# Altium footprint library WePcbLib.PcbLib: 177 footprints (part 5 of 12)
Each footprint in its own frame and in the unit in brackets; x right, y up, seen from the top. Pads: shape width x height; smd on the part's side, far side on the other; paste and mask are expansions set on the pad; w line width, h text height; cw(c..) or ccw(c..) is an arc to the next point about the centre after c.
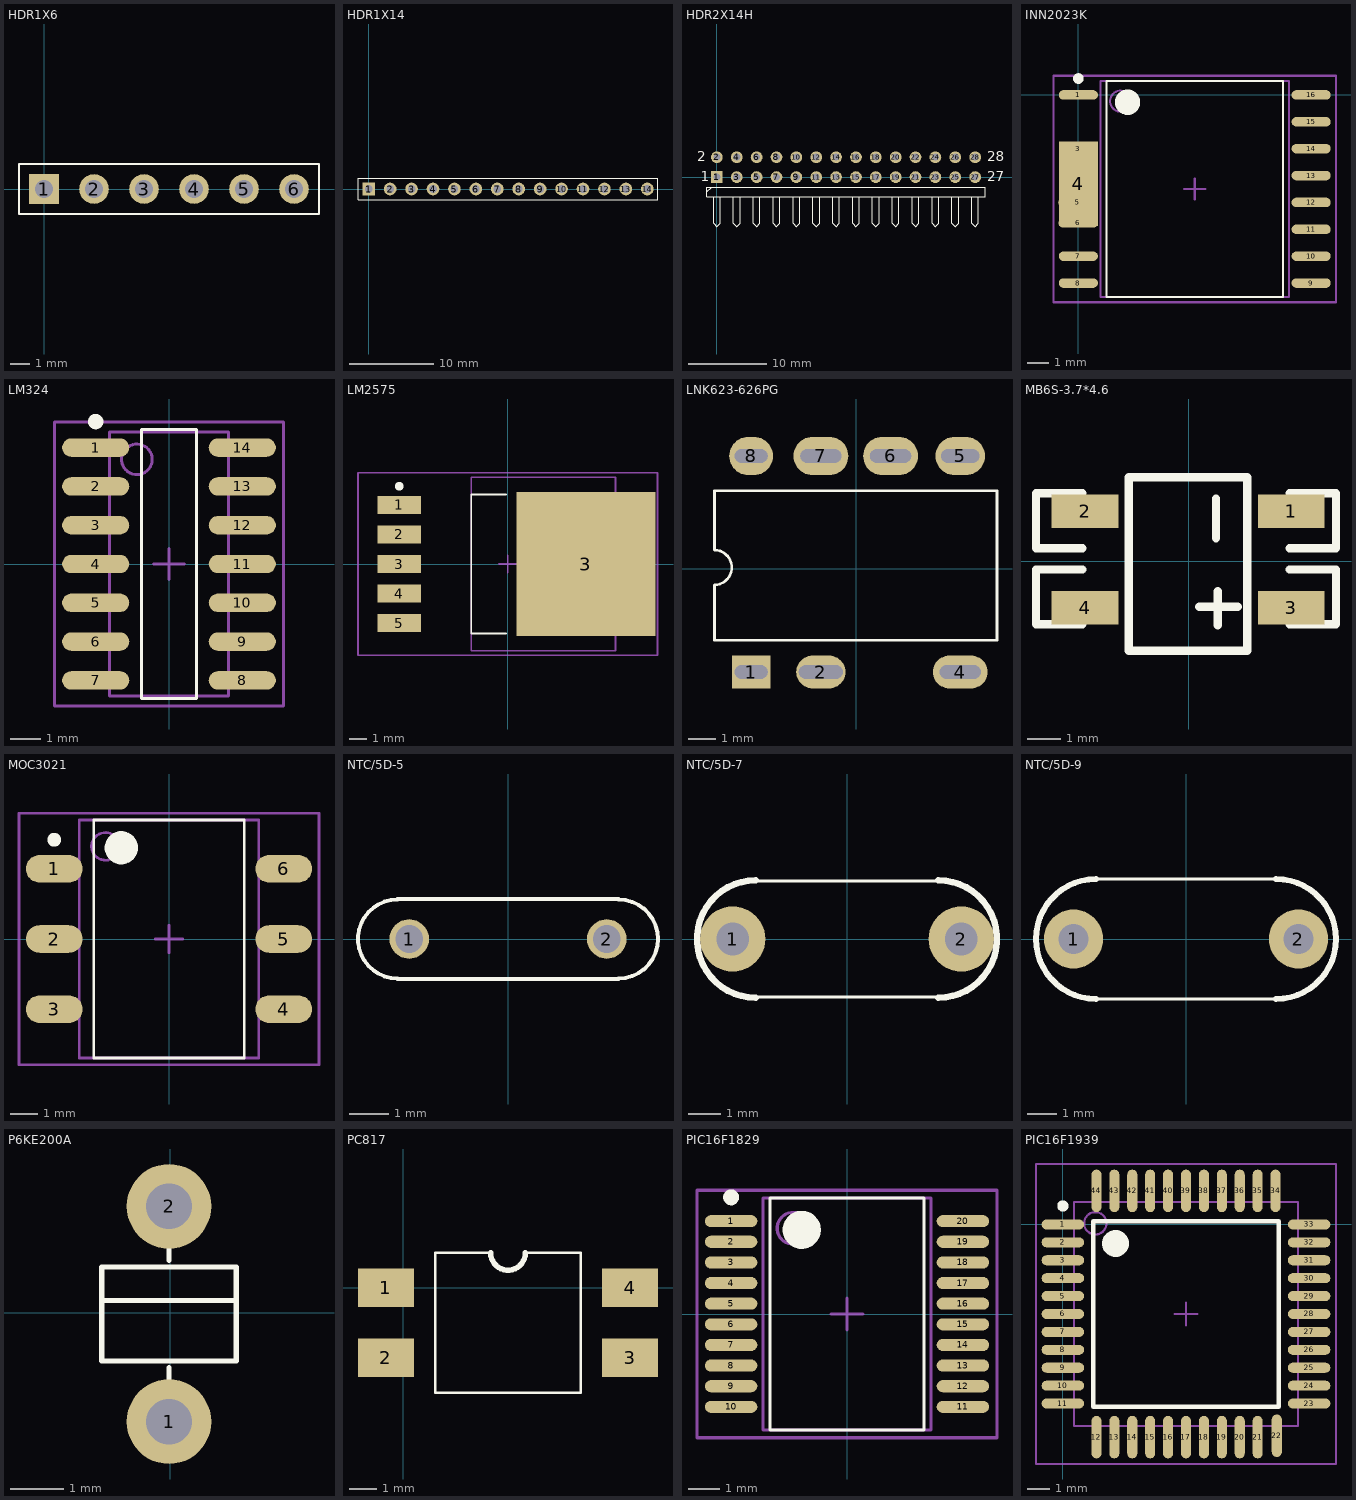
[diagram p4: the footprints below, top view; thin cyan lines are the x and y axes]

## HDR1X6 [mm] "Connector; Header; 6 Position"
height 4.6
pads (6):
  rect 1.5x1.5 hole 0.9: 1(0,0)
  round 1.5 hole 0.9: 2(2.54,0) 3(5.08,0) 4(7.62,0) 5(10.16,0) 6(12.7,0)
Top Overlay:
  lines w0.1: -1.27,-1.27 -1.27,1.27 13.97,1.27 13.97,-1.27 -1.27,-1.27

## HDR1X14 [mm] "Connector; Header; 14 Position"
height 4.6
pads (14):
  rect 1.5x1.5 hole 0.9: 1(0,0)
  round 1.5 hole 0.9: 2(2.54,0) 3(5.08,0) 4(7.62,0) 5(10.16,0) 6(12.7,0) 7(15.24,0) 8(17.78,0) 9(20.32,0) 10(22.86,0) 11(25.4,0) 12(27.94,0) 13(30.48,0) 14(33.02,0)
Top Overlay:
  lines w0.1: -1.27,-1.27 -1.27,1.27 0.635,1.27 34.29,1.27 34.29,-1.27 -1.27,-1.27

## HDR2X14H [mm] "Connector; Header; 14x2 Position; Right Angle"
height 4.6
pads (28):
  rect 1.5x1.5 hole 0.9: 1(0,0)
  round 1.5 hole 0.9: 2(0,2.54) 3(2.54,0) 4(2.54,2.54) 5(5.08,0) 6(5.08,2.54) 7(7.62,0) 8(7.62,2.54) 9(10.16,0) 10(10.16,2.54) 11(12.7,0) 12(12.7,2.54) 13(15.24,0) 14(15.24,2.54) 15(17.78,0) 16(17.78,2.54) 17(20.32,0) 18(20.32,2.54) 19(22.86,0) 20(22.86,2.54) 21(25.4,0) 22(25.4,2.54) 23(27.94,0) 24(27.94,2.54) 25(30.48,0) 26(30.48,2.54) 27(33.02,0) 28(33.02,2.54)
Top Overlay:
  lines w0.1: -1.27,-1.905 -0.635,-1.27 ; -0.423,-2.54 -0.423,-5.927 0,-6.35 0.423,-5.927 0.423,-2.54 ; 2.117,-2.54 2.117,-5.927 2.54,-6.35 2.963,-5.927 2.963,-2.54 ; 4.657,-2.54 4.657,-5.927 5.08,-6.35 5.503,-5.927 5.503,-2.54 ; 7.197,-2.54 7.197,-5.927 7.62,-6.35 8.043,-5.927 8.043,-2.54 ; 9.737,-2.54 9.737,-5.927 10.16,-6.35 10.583,-5.927 10.583,-2.54 ; 12.277,-2.54 12.277,-5.927 12.7,-6.35 13.123,-5.927 13.123,-2.54 ; 14.817,-2.54 14.817,-5.927 15.24,-6.35 15.663,-5.927 15.663,-2.54 ; 17.357,-2.54 17.357,-5.927 17.78,-6.35 18.203,-5.927 18.203,-2.54 ; 19.897,-2.54 19.897,-5.927 20.32,-6.35 20.743,-5.927 20.743,-2.54 ; 22.437,-2.54 22.437,-5.927 22.86,-6.35 23.283,-5.927 23.283,-2.54 ; 24.977,-2.54 24.977,-5.927 25.4,-6.35 25.823,-5.927 25.823,-2.54 ; 27.517,-2.54 27.517,-5.927 27.94,-6.35 28.363,-5.927 28.363,-2.54 ; 30.057,-2.54 30.057,-5.927 30.48,-6.35 30.903,-5.927 30.903,-2.54 ; 32.597,-2.54 32.597,-5.927 33.02,-6.35 33.443,-5.927 33.443,-2.54 ; -1.27,-2.54 34.29,-2.54 34.29,-1.27 -1.27,-1.27 -1.27,-2.54
  text "2" at -2.54,2.032 h1.27
  text "1" at -2.032,-0.508 h1.27
  text "27" at 34.544,-0.508 h1.27
  text "28" at 34.544,2.032 h1.27

## INN2023K [mm]
height 2.3
pads (15):
  oval 1.85x0.45 smd: 1(0,0) 3(0,-2.54) 5(-0.025,-5.08) 6(-0.012,-6.05) 7(0,-7.62) 8(0,-8.89) 9(11,-8.89) 10(11,-7.62) 11(11,-6.35) 12(11,-5.08) 13(11,-3.81) 14(11,-2.54) 15(11,-1.27) 16(11,0)
  rect 1.85x4 smd: 4(0,-4.19)
Top Overlay:
  circle w0.6: c2.325,-0.345 r0.3
  circle w0.25: c0,0.775 r0.125
  lines w0.1: 1.325,-9.545 9.675,-9.545 9.675,0.655 1.325,0.655 1.325,-9.545
Mechanical 13:
  circle w0.1: c2,-0.295 r0.5
  lines w0.1: 1.05,-9.545 9.95,-9.545 9.95,0.655 1.05,0.655 1.05,-9.545
Mechanical 15:
  lines w0.1: 5,-4.445 6,-4.445 ; 5.5,-4.945 5.5,-3.945 ; -1.175,-9.795 12.175,-9.795 12.175,0.905 -1.175,0.905 -1.175,-9.795
3D body: height 2.3, standoff 0.25, extent 1.05,-9.545 9.95,0.655

## LM324 [mm]
height 4.6
pads (14):
  oval 2.2x0.6 smd: 1(-2.4,3.81) 2(-2.4,2.54) 3(-2.4,1.27) 4(-2.4,0) 5(-2.4,-1.27) 6(-2.4,-2.54) 7(-2.4,-3.81) 8(2.4,-3.81) 9(2.4,-2.54) 10(2.4,-1.27) 11(2.4,0) 12(2.4,1.27) 13(2.4,2.54) 14(2.4,3.81)
Top Overlay:
  circle w0.25: c-2.4,4.66 r0.125
  lines w0.1: -0.9,-4.4 -0.9,4.4 0.9,4.4 0.9,-4.4 -0.9,-4.4
Mechanical 13:
  circle w0.1: c-1.05,3.425 r0.5
  lines w0.1: -1.95,-4.325 -1.95,4.325 1.95,4.325 1.95,-4.325 -1.95,-4.325
Mechanical 15:
  lines w0.1: -0.5,0 0.5,0 ; 0,-0.5 0,0.5 ; -3.75,-4.65 -3.75,4.65 3.75,4.65 3.75,-4.65 -3.75,-4.65
3D body: height 1.75, standoff 0, extent -1.95,-4.325 1.95,4.325

## LM2575 [mm]
height 4.6
pads (6):
  rect 2.5x1.05 smd: 1(-6.25,3.4) 2(-6.25,1.7) 3(-6.25,0) 4(-6.25,-1.7) 5(-6.25,-3.4)
  rect 8x8.3 smd: 3(4.5,0)
Top Overlay:
  circle w0.25: c-6.25,4.475 r0.125
  lines w0.1: -0.1,-4 -2.1,-4 -2.1,4 -0.1,4
Mechanical 13:
  lines w0.1: -2.1,-5 -2.1,5 6.2,5 6.2,-5 -2.1,-5
Mechanical 15:
  lines w0.1: -0.5,0 0.5,0 ; 0,-0.5 0,0.5 ; -8.625,-5.25 -8.625,5.25 8.625,5.25 8.625,-5.25 -8.625,-5.25
3D body: height 4.6, standoff 0, extent -2.1,-5 6.2,5

## LNK623-626PG [mm]
pads (7):
  rect 1.4x1.2 hole 0.5 slot 1.2 at 0 deg: 1(-3.835,-3.76)
  oval 1.8x1.2 hole 0.5 slot 1.6 at 0 deg: 2(-1.295,-3.76)
  oval 2x1.2 hole 0.5 slot 1.5 at 0 deg: 4(3.785,-3.76)
  oval 1.8x1.4 hole 0.5 slot 1.4 at 0 deg: 5(3.785,4.114)
  oval 2x1.4 hole 0.5 slot 1.5 at 0 deg: 6(1.245,4.114) 7(-1.295,4.114)
  oval 1.6x1.4 hole 0.5 slot 1.2 at 0 deg: 8(-3.835,4.114)
Top Overlay:
  lines w0.1: -5.175,-2.6 5.125,-2.6 5.125,2.844 -5.175,2.844 -5.175,0.685 cw(c-5.175,0.05) -5.175,-0.585 -5.175,-2.6

## MB6S-3.7*4.6 [mm]
pads (4):
  rect 2x1 smd: 1(3.073,1.5) 2(-3.124,1.5) 3(3.073,-1.4) 4(-3.124,-1.4)
Top Overlay:
  lines w0.254: -3.2,-1.905 -4.597,-1.905 -4.597,-0.254 -3.2,-0.254 ; -3.2,0.381 -4.597,0.381 -4.597,2.032 -3.2,2.032 ; 0.305,-1.372 1.473,-1.372 ; 0.813,0.686 0.813,1.88 ; 0.864,-1.93 0.864,-0.914 ; 3.023,-1.905 4.42,-1.905 4.42,-0.254 3.023,-0.254 ; 3.023,0.381 4.42,0.381 4.42,2.032 3.023,2.032 ; -1.803,-2.692 1.753,-2.692 1.753,2.515 -1.803,2.515 -1.803,-2.692

## MOC3021 [mm] "SOP, 6-Leads, Body 8.6x6.5mm (max), Pitch 2.54mm, IPC Medium Density"
height 5
pads (6):
  oval 2.05x1 smd: 1(-4.15,2.54) 2(-4.15,0) 3(-4.15,-2.54) 4(4.15,-2.54) 5(4.15,0) 6(4.15,2.54)
Top Overlay:
  circle w0.25: c-4.15,3.59 r0.125
  circle w0.6: c-1.725,3.3 r0.3
  lines w0.1: -2.725,-4.3 -2.725,4.3 2.725,4.3 2.725,-4.3 -2.725,-4.3
Mechanical 13:
  circle w0.1: c-2.3,3.35 r0.5
  lines w0.1: -3.25,-4.3 -3.25,4.3 3.25,4.3 3.25,-4.3 -3.25,-4.3
Mechanical 15:
  lines w0.1: -0.5,0 0.5,0 ; 0,-0.5 0,0.5 ; -5.425,-4.55 -5.425,4.55 5.425,4.55 5.425,-4.55 -5.425,-4.55
3D body: height 5, standoff 0.2, extent -3.25,-4.3 3.25,4.3

## NTC/5D-5 [mm]
pads (2):
  round 1 hole 0.7: 1(-2.5,0) 2(2.5,0)
Top Overlay:
  lines w0.1: -2.794,-1.016 2.794,-1.016 ; -2.794,-1 cw(c-2.794,0) -2.794,1 ; -2.794,1.016 2.794,1.016 ; 2.794,-1 ccw(c2.794,0) 2.794,1

## NTC/5D-7 [mm]
pads (2):
  round 2 hole 1: 1(-3.5,0) 2(3.5,0)
Top Overlay:
  lines w0.1: -3.048,-1.778 3.048,-1.778 ; -3.048,1.778 3.048,1.778
  lines w0.2: -2.794,-1.8 cw(c-2.794,0) -2.794,1.8 ; 2.794,-1.8 ccw(c2.794,0) 2.794,1.8

## NTC/5D-9 [mm]
pads (2):
  round 2 hole 1: 1(-3.81,0) 2(3.81,0)
Top Overlay:
  lines w0.1: -3.048,-2.032 3.048,-2.032 ; -3.048,2.032 3.048,2.032
  lines w0.2: -3.048,-2.032 cw(c-3.048,0) -3.048,2.032 ; 3.048,-2.032 ccw(c3.048,0) 3.048,2.032

## P6KE200A [mm]
pads (2):
  round 1.6 hole 0.86: 1(-0.025,-2.057) 2(-0.025,2.007)
Top Overlay:
  lines w0.1: -1.295,0.229 1.245,0.229 ; -0.025,-2.184 -0.025,-1.041 ; -0.025,0.991 -0.025,2.134 ; -1.295,-0.914 1.245,-0.914 1.245,0.864 -1.295,0.864 -1.295,-0.914

## PC817 [mil]
pads (4):
  rect 80x55 smd: 1(-25,0) 2(-25,-100) 3(325,-100) 4(325,0)
Top Overlay:
  lines w3.94: 125,50.39 45.67,50.39 45.67,-150.39 254.33,-150.39 254.33,50.39 175,50.39
  lines w7.87: 125,50.39 ccw(c150,50.39) 175,50.39

## PIC16F1829 [mm] "SOP, 20-Leads, Body 7.3x5.3mm (max), Pitch 0.65mm, IPC Medium Density"
height 1.8
pads (20):
  oval 1.65x0.381 smd: 1(-3.65,2.925) 2(-3.65,2.275) 3(-3.65,1.625) 4(-3.65,0.975) 5(-3.65,0.325) 6(-3.65,-0.325) 7(-3.65,-0.975) 8(-3.65,-1.625) 9(-3.65,-2.275) 10(-3.65,-2.925) 11(3.65,-2.925) 12(3.65,-2.275) 13(3.65,-1.625) 14(3.65,-0.975) 15(3.65,-0.325) 16(3.65,0.325) 17(3.65,0.975) 18(3.65,1.625) 19(3.65,2.275) 20(3.65,2.925)
Top Overlay:
  circle w0.25: c-3.65,3.675 r0.125
  circle w0.6: c-1.425,2.65 r0.3
  lines w0.1: -2.425,-3.65 -2.425,3.65 2.425,3.65 2.425,-3.65 -2.425,-3.65
Mechanical 13:
  circle w0.1: c-1.7,2.7 r0.5
  lines w0.1: -2.65,-3.65 -2.65,3.65 2.65,3.65 2.65,-3.65 -2.65,-3.65
Mechanical 15:
  lines w0.1: -0.5,0 0.5,0 ; 0,-0.5 0,0.5 ; -4.725,-3.9 -4.725,3.9 4.725,3.9 4.725,-3.9 -4.725,-3.9
3D body: height 1.8, standoff 0.1, extent -2.65,-3.65 2.65,3.65

## PIC16F1939 [mm]
pads (44):
  oval 1.9x0.45 smd: 1(0,0) 2(0,-0.8) 3(0,-1.6) 4(0,-2.4) 5(0,-3.2) 6(0,-4) 7(0,-4.8) 8(0,-5.6) 9(0,-6.4) 10(0,-7.2) 11(0,-8) 23(11,-8) 24(11,-7.2) 25(11,-6.4) 26(11,-5.6) 27(11,-4.8) 28(11,-4) 29(11,-3.2) 30(11,-2.4) 31(11,-1.6) 32(11,-0.8) 33(11,0)
  oval 0.45x1.9 smd: 12(1.5,-9.5) 13(2.3,-9.5) 14(3.1,-9.5) 15(3.9,-9.5) 16(4.7,-9.5) 17(5.5,-9.5) 18(6.3,-9.5) 19(7.1,-9.5) 20(7.9,-9.5) 21(8.7,-9.5) 22(9.554,-9.435) 34(9.5,1.5) 35(8.7,1.5) 36(7.9,1.5) 37(7.1,1.5) 38(6.3,1.5) 39(5.5,1.5) 40(4.7,1.5) 41(3.9,1.5) 42(3.1,1.5) 43(2.3,1.5) 44(1.5,1.5)
Top Overlay:
  circle w0.6: c2.35,-0.85 r0.3
  circle w0.25: c0,0.825 r0.125
  lines w0.2: 1.35,-8.15 9.65,-8.15 9.65,0.15 1.35,0.15 1.35,-8.15
Mechanical 13:
  circle w0.1: c1.45,0.05 r0.5
  lines w0.1: 0.5,-9 10.5,-9 10.5,1 0.5,1 0.5,-9
Mechanical 15:
  lines w0.1: 5,-4 6,-4 ; 5.5,-4.5 5.5,-3.5 ; -1.2,-10.7 12.2,-10.7 12.2,2.7 -1.2,2.7 -1.2,-10.7
3D body: height 1.2, standoff 0.15, extent 0.454,-9.035 10.454,0.965